# Altium footprint library PcbLib1.PcbLib: 5 footprints
Each footprint in its own frame and in the unit in brackets; x right, y up, seen from the top. Pads: shape width x height; smd on the part's side, far side on the other; paste and mask are expansions set on the pad; w line width, h text height; cw(c..) or ccw(c..) is an arc to the next point about the centre after c.
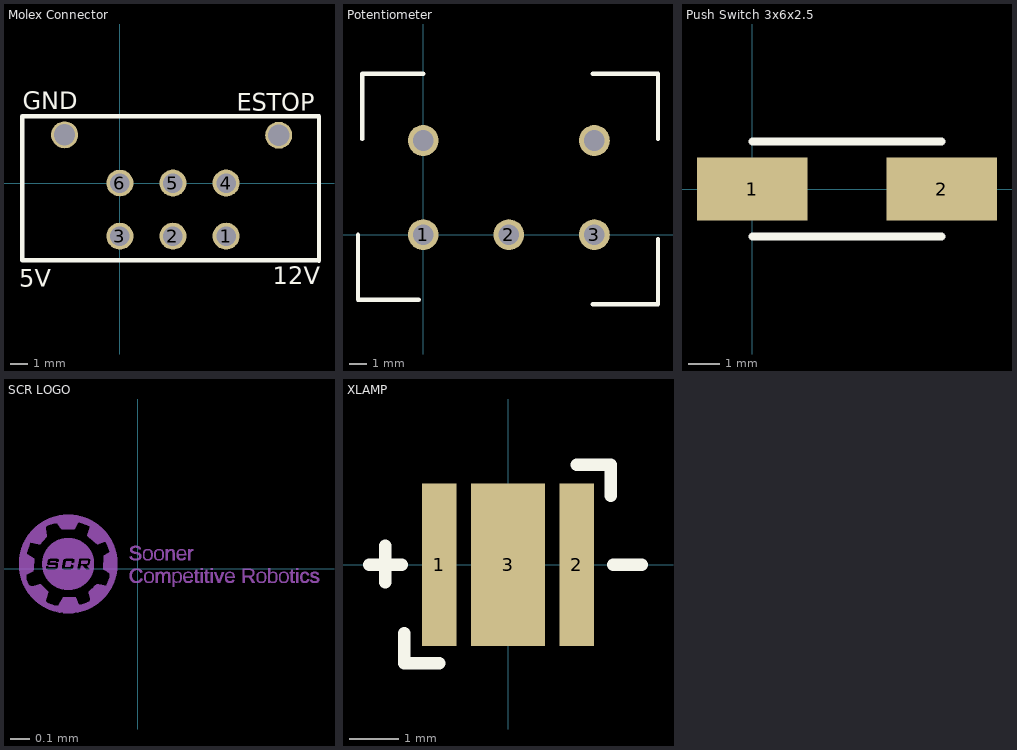
[diagram p0: the footprints below, top view; thin cyan lines are the x and y axes]

## Molex Connector [mm]
pads (8):
  round 1.524 hole 1.1: 1(6,-3) 2(3,-3) 3(0,-3) 4(6,0) 5(3,0)
  oval 1.524x1.5 hole 1.1: 6(0,0)
  round 1.524 hole 1.2: ""(-3.125,2.725) ""(8.975,2.7)
Top Overlay:
  lines w0.254: -5.525,-4.375 -5.525,-2.338 -5.525,1.737 -5.525,3.775 ; -5.475,-4.375 11.225,-4.375 ; -5.475,3.775 11.2,3.775 ; 11.25,-4.385 11.25,-2.342 11.25,1.742 11.25,3.785
  text "ESTOP" at 6.6,4.075 h1
  text "GND" at -5.5,4.175 h1
  text "5V" at -5.7,-5.85 h1
  text "12V" at 8.65,-5.725 h1

## Potentiometer [mm]
pads (5):
  round 1.8 hole 1.2: 1(0,0) 2(5,0) 3(10,0) ""(0,5.5) ""(10,5.5)
Top Overlay:
  lines w0.254: -3.81,0 -3.81,-3.81 -0.254,-3.81 ; -3.556,5.588 -3.556,9.398 0,9.398 ; 9.906,-4.064 13.716,-4.064 13.716,-0.254 ; 9.906,9.398 13.716,9.398 13.716,5.588

## Push Switch 3x6x2.5 [mm]
pads (2):
  rect 3.5x2 smd: 1(0,0) 2(6,0)
Top Overlay:
  lines w0.254: 0,-1.5 6,-1.5 ; 0,1.5 6,1.5

## SCR LOGO [mm]
Mechanical 1:
  drawing of 31 lines, arcs and shapes, not listed

## XLAMP [mm] "Footprint for the XP-G3 LED"
height 3.3
pads (3):
  rect 0.7x3.3 smd: 1(-1.397,0) 2(1.397,0)
  rect 1.5x3.3 smd: 3(0,0)
Top Overlay:
  lines w0.254: -2.819,0 -2.159,0 ; -2.489,-0.356 -2.489,0.381 ; -2.108,-1.397 -2.108,-2.007 -1.397,-2.007 ; 1.397,2.032 2.083,2.032 2.083,1.397 ; 2.134,0 2.718,0